# Altium schematic symbol library SCH - DRIVER - LED - TI TPS61087DSC.SchLib: 1 symbol
Pins are listed as number, name and electrical type; pins without a type are passive.

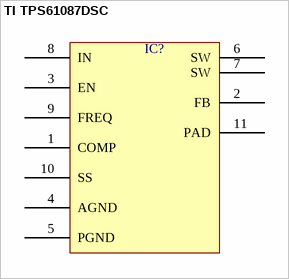
[diagram p0: symbol TI TPS61087DSC]

## TI TPS61087DSC
designator IC?  (value not drawn)
pins: 1 COMP, 2 FB, 3 EN, 4 AGND, 5 PGND, 6 SW, 7 SW, 8 IN, 9 FREQ, 10 SS, 11 PAD